# Altium footprint library Transformators.PcbLib: 10 footprints
Each footprint in its own frame and in the unit in brackets; x right, y up, seen from the top. Pads: shape width x height; smd on the part's side, far side on the other; paste and mask are expansions set on the pad; w line width, h text height; cw(c..) or ccw(c..) is an arc to the next point about the centre after c.
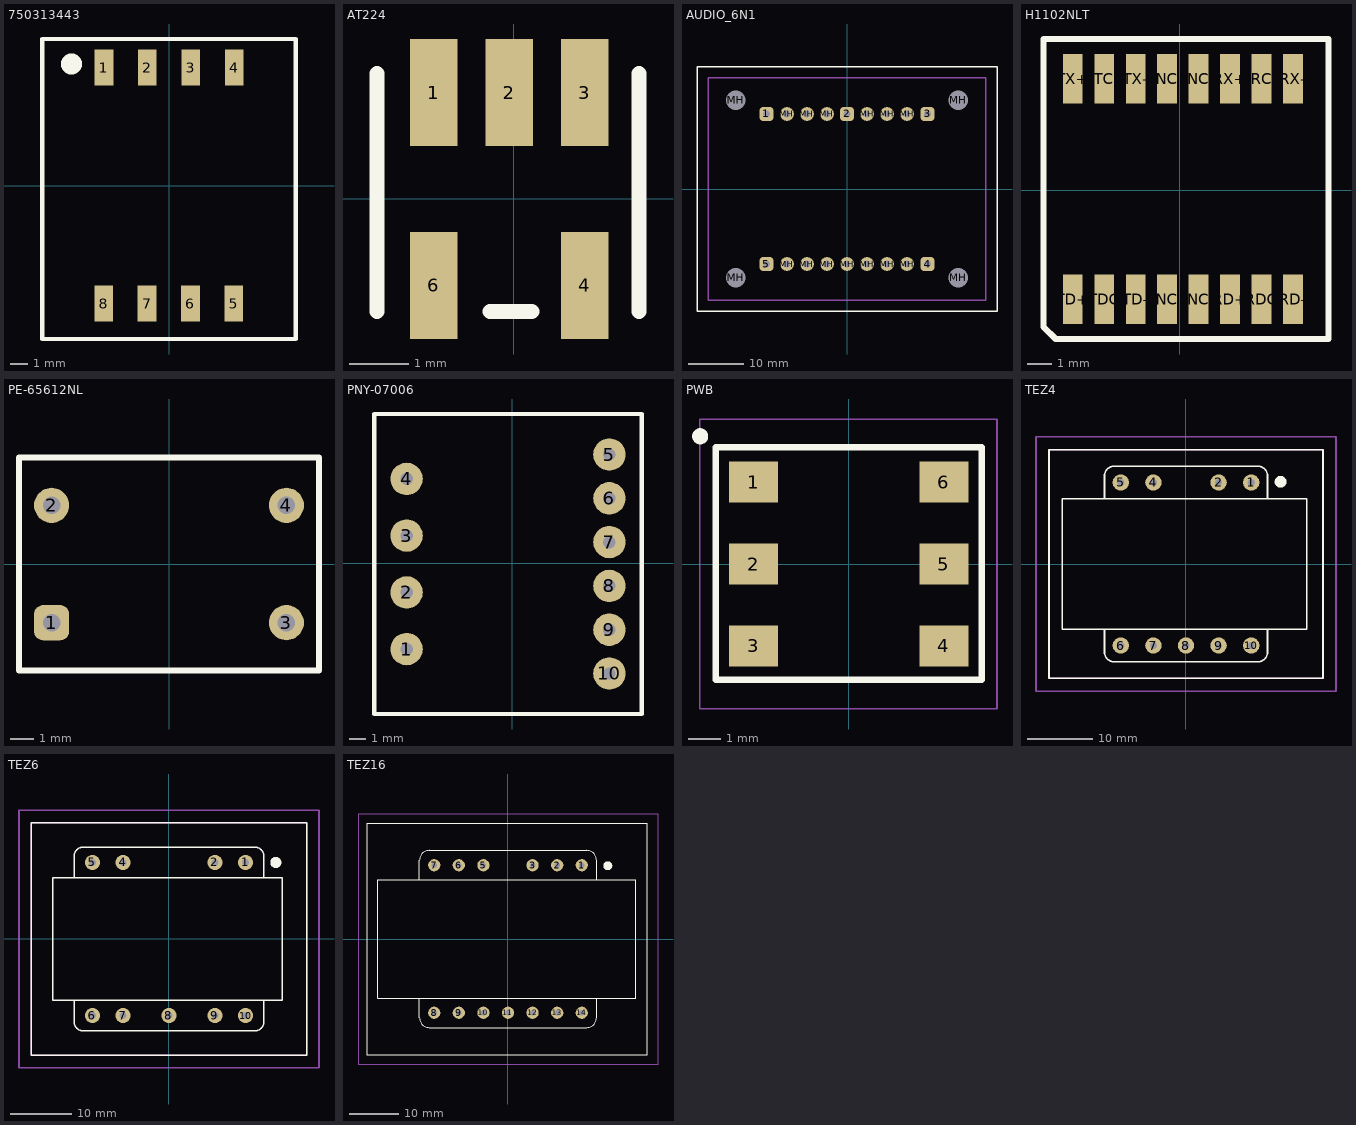
[diagram p0: the footprints below, top view; thin cyan lines are the x and y axes]

## 750313443 [mm]
pads (8):
  rect 1.07x2.08 smd: 1(-3.73,6.78) 2(-1.24,6.78) 3(1.25,6.78) 4(3.74,6.78) 5(3.72,-6.75) 6(1.23,-6.75) 7(-1.26,-6.75) 8(-3.75,-6.75)
Top Overlay:
  lines w0.254: -7.27,5.47 -7.27,-8.78 ; 7.26,8.42 7.26,-8.78 -7.27,-8.78 ; 7.27,8.42 -7.27,8.42 -7.27,-8.78
  lines w1: -5.495,7.025 ccw(c-5.591,6.992) -5.493,6.97
3D body: height 11.43, standoff 0, extent -6.25,-5.46 6.25,5.46

## AT224 [mm] "Case style: AT224"
height 3.81
pads (5):
  rect 0.8x1.8 smd: 1(-1.35,1.78) 2(-0.08,1.78) 3(1.19,1.78) 4(1.19,-1.46) 6(-1.35,-1.46)
Top Overlay:
  lines w0.254: -2.3,-1.9 -2.3,2.1 ; -0.4,-1.9 0.3,-1.9 ; 2.1,-1.9 2.1,2.1
3D body "User Library-FluxBalun.step": height 3.55, standoff 0, extent -1.97,-2.015 1.77,2.215

## AUDIO_6N1 [mm]
height 41
pads (22):
  rrect50% 2.5x2.5 hole 1.2: 1(-14.5,13.5) 2(0,13.5) 3(14.5,13.5) 4(14.5,-13.5) 5(-14.5,-13.5)
  round 3 hole 3.5 unplated mask+1.8: MH(-20,-16) MH(-20,16) MH(20,-16) MH(20,16)
  round 2.5 hole 1.2: MH(-10.8,-13.5) MH(-10.8,13.5) MH(-7.2,-13.5) MH(-7.2,13.5) MH(-3.6,-13.5) MH(-3.6,13.5) MH(0,-13.5) MH(3.6,-13.5) MH(3.6,13.5) MH(7.2,-13.5) MH(7.2,13.5) MH(10.8,-13.5) MH(10.8,13.5)
Top Overlay:
  lines w0.254: -27,-22 27,-22 27,22 -27,22 -27,-22
Mechanical 1:
  lines w0.254: -25,-20 -25,20 0,20 25,20 25,-20 -25,-20
3D body: height 41, standoff 4, extent -25,-20 25,20

## H1102NLT [mm]
pads (16):
  rect 0.8x2 smd: NC(-0.51,-4.4) NC(-0.51,4.49) NC(0.76,-4.4) NC(0.76,4.49) RC(3.3,4.49) RD+(2.03,-4.4) RD-(4.57,-4.4) RDC(3.3,-4.4) RX+(2.03,4.49) RX-(4.57,4.49) TC(-3.05,4.49) TD+(-4.32,-4.4) TD-(-1.78,-4.4) TDC(-3.05,-4.4) TX+(-4.32,4.49) TX-(-1.78,4.49)
Top Overlay:
  lines w0.254: -5.5,-5.5 -5,-6 6,-6 6,6.1 -5.5,6.1 -5.5,-5.5

## PE-65612NL [mil]
height 1614.17
pads (4):
  rrect50% 60x60 hole 30: 1(-200,-100)
  round 60 hole 30: 2(-200,100) 3(200,-100) 4(200,100)
Top Overlay:
  lines w10: -255.51,-181.1 -255.51,181.1 255.51,181.1 255.51,-181.1 -255.51,-181.1
3D body "User Library-PE-65612NL.step": height 269.69, standoff -100.39, extent -249.99,-174.99 250.01,175

## PNY-07006 [mm] "SWITCHING TRANSFORMER for TNY-254"
height 18
pads (10):
  round 2 hole 0.762: 1(-6.5,-5.3) 2(-6.5,-1.8) 3(-6.5,1.7) 4(-6.5,5.2) 5(6,6.7) 6(6,4) 7(6,1.3) 8(6,-1.4) 9(6,-4.1) 10(6,-6.8)
Top Overlay:
  lines w0.254: -8.5,-9.3 -8.5,9.2 8,9.2 8,-9.3 -8.5,-9.3

## PWB [mm] "SMD Wideband RF Transformer; 7.2x6.5x4.45mm"
height 4.45
pads (6):
  rect 1.52x1.27 smd: 1(-2.945,2.54) 2(-2.945,0) 3(-2.945,-2.54) 4(2.955,-2.54) 5(2.955,0) 6(2.955,2.54)
Top Overlay:
  lines w0.2: -4.113,-3.594 -4.113,3.613 4.128,3.613 4.128,-3.594 -4.113,-3.594
  lines w0.3: -4.505,3.993 ccw(c-4.6,3.96) -4.503,3.938
Mechanical 15:
  lines w0.05: -4.61,-4.49 4.6,-4.49 4.6,4.49 -4.61,4.49 -4.61,-4.49
3D body "Coilcraft-PWB Series.step": height 4.65, standoff 0, extent -3.6,-3.485 3.6,3.485

## TEZ4 [mm]
height 32
pads (9):
  round 2.5 hole 1.1: 1(10,12.5) 2(5,12.5) 4(-5,12.5) 5(-10,12.5) 6(-10,-12.5) 7(-5,-12.5) 8(0,-12.5) 9(5,-12.5) 10(10,-12.5)
Top Overlay:
  circle w1: c14.5,12.6 r0.4
  lines w0.254: -12.5,-10 -12.5,-13.5 ccw(c-11,-13.5) -11,-15 11,-15 ccw(c11,-13.5) 12.5,-13.5 12.5,-10.1 ; -12.5,10 -12.5,13.5 cw(c-11,13.5) -11,15 11,15 cw(c11,13.5) 12.5,13.5 12.5,10 ; -21,-17.5 -21,17.5 21,17.5 21,-17.5 -21,-17.5 ; -19,-10 -19,10 18.5,10 18.5,-10 -19,-10
Bottom Overlay:
  circle w1: c14.5,12.6 r0.4
Mechanical 1:
  lines w0.254: -23,-19.5 23,-19.5 23,19.5 -23,19.5 -23,-19.5 ; -21,-17.5 21,-17.5 21,17.5 -21,17.5 -21,-17.5
3D body: height 32, standoff 4, extent -21,-17.5 21,17.5

## TEZ6 [mm]
height 32
pads (9):
  round 2.5 hole 1.1: 1(12.5,12.5) 2(7.5,12.5) 4(-7.5,12.5) 5(-12.5,12.5) 6(-12.5,-12.5) 7(-7.5,-12.5) 8(0,-12.5) 9(7.5,-12.5) 10(12.5,-12.5)
Top Overlay:
  circle w1: c17.446,12.5 r0.4
  lines w0.254: -15.5,-10 -15.5,-13.5 ccw(c-14,-13.5) -14,-15 14,-15 ccw(c14,-13.5) 15.5,-13.5 ; -15.5,10 -15.5,13.5 cw(c-14,13.5) -14,15 14,15 cw(c14,13.5) 15.5,13.5 15.5,10 ; 15.5,-13.4 15.5,-10 ; -22.5,-19 -22.5,19 22.5,19 22.5,-19 -22.5,-19 ; -19,-10 -19,10 18.5,10 18.5,-10 -19,-10
Bottom Overlay:
  circle w1: c17.446,12.5 r0.4
Mechanical 1:
  lines w0.254: -24.5,-21 24.5,-21 24.5,21 -24.5,21 -24.5,-21 ; -22.5,-19 22.5,-19 22.5,19 -22.5,19 -22.5,-19
3D body: height 32, standoff 4, extent -22.5,-19 22.5,19

## TEZ16 [mm]
height 40
pads (13):
  round 2.5 hole 1.1: 1(15,15) 2(10,15) 3(5,15) 5(-5,15) 6(-10,15) 7(-15,15) 8(-15,-15) 9(-10,-15) 10(-5,-15) 11(0,-15) 12(5,-15) 13(10,-15) 14(15,-15)
Top Overlay:
  circle w1: c20.3,14.9 r0.4
  lines w0.254: -18,-12 -18,-16 ccw(c-16,-16) -16,-18 16,-18 ccw(c16,-16) 18,-16 18,-12 ; -18,12 -18,16 cw(c-16,16) -16,18 16,18 cw(c16,16) 18,16 18,12 ; -28.7,-23.5 -28.7,23.5 28.3,23.5 28.3,-23.5 -28.7,-23.5 ; -26.5,-12 -26.5,12 26,12 26,-12 -26.5,-12
Bottom Overlay:
  circle w1: c20.3,14.9 r0.4
Mechanical 1:
  lines w0.254: -30.5,-25.5 30.5,-25.5 30.5,25.5 -30.5,25.5 -30.5,-25.5
3D body: height 40, standoff 4, extent -28.7,-23.5 28.3,23.4